# Altium footprint library Pressure Sensor Pads.PcbLib: 1 footprints
Each footprint in its own frame and in the unit in brackets; x right, y up, seen from the top. Pads: shape width x height; smd on the part's side, far side on the other; paste and mask are expansions set on the pad; w line width, h text height; cw(c..) or ccw(c..) is an arc to the next point about the centre after c.
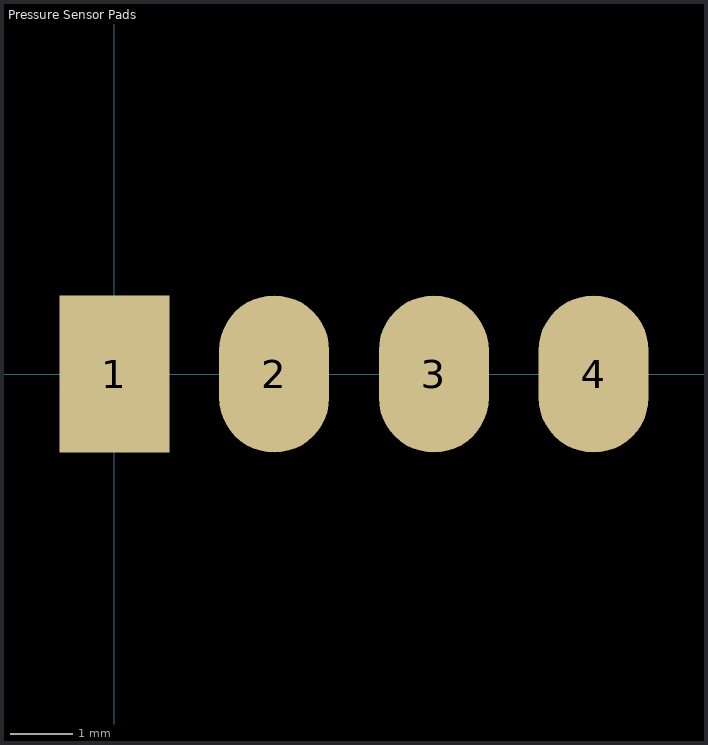
[diagram p0: the footprint, top view; thin cyan lines are the x and y axes]

## Pressure Sensor Pads [mm]
pads (4):
  rect 1.75x2.5 smd: 1(0,0)
  oval 1.75x2.5 smd: 2(2.54,0) 3(5.08,0) 4(7.62,0)